# EAGLE library part MB81C67P (library micro-fujitsu)
MICROCONTROLLER/MEMORY DEVICE
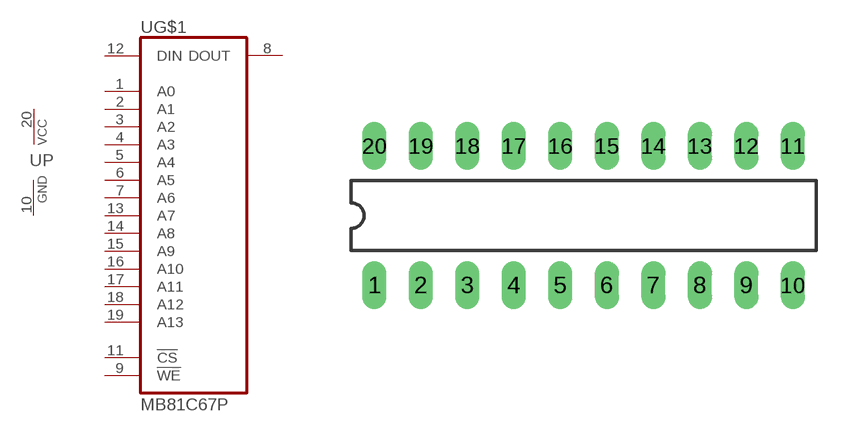
[diagram p0: symbol with the pads of DIL20; footprint DIL20]

Designator prefix U; gates G$1=MB81C67 P=VCC-GND

## MB81C67P  [DIL20]
1  G$1:A0  in
2  G$1:A1  in
3  G$1:A2  in
4  G$1:A3  in
5  G$1:A4  in
6  G$1:A5  in
7  G$1:A6  in
8  G$1:DOUT  out
9  G$1:!WE!  in
10  P:GND  pwr
11  G$1:!CS!  in
12  G$1:DIN  in
13  G$1:A7  in
14  G$1:A8  in
15  G$1:A9  in
16  G$1:A10  in
17  G$1:A11  in
18  G$1:A12  in
19  G$1:A13  in
20  P:VCC  pwr

## Footprint DIL20 (pad centres in mm)
Dual In Line Package
drill 0.813 long: 1 -11.43,-3.81; 2 -8.89,-3.81; 3 -6.35,-3.81; 4 -3.81,-3.81; 5 -1.27,-3.81; 6 1.27,-3.81; 7 3.81,-3.81; 8 6.35,-3.81; 9 8.89,-3.81; 10 11.43,-3.81; 11 11.43,3.81; 12 8.89,3.81; 13 6.35,3.81; 14 3.81,3.81; 15 1.27,3.81; 16 -1.27,3.81; 17 -3.81,3.81; 18 -6.35,3.81; 19 -8.89,3.81; 20 -11.43,3.81